# Altium footprint library CMT-8504-100-SMT-TR.PcbLib: 1 footprints
Each footprint in its own frame and in the unit in brackets; x right, y up, seen from the top. Pads: shape width x height; smd on the part's side, far side on the other; paste and mask are expansions set on the pad; w line width, h text height; cw(c..) or ccw(c..) is an arc to the next point about the centre after c.
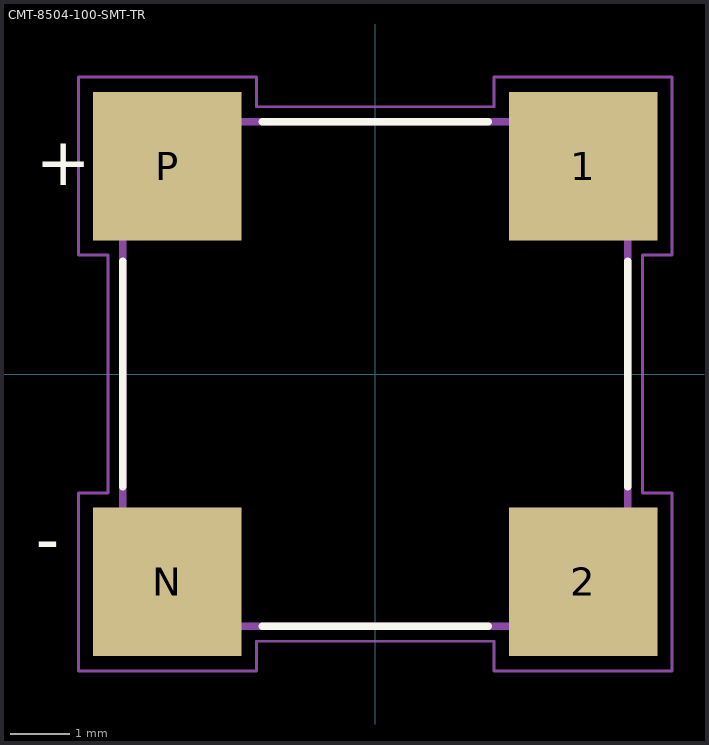
[diagram p0: the footprint, top view; thin cyan lines are the x and y axes]

## CMT-8504-100-SMT-TR [mm]
height 4
pads (4):
  rect 2.5x2.5 smd: 1(3.5,3.5) 2(3.5,-3.5) N(-3.5,-3.5) P(-3.5,3.5)
Top Overlay:
  lines w0.127: -4.25,-1.9 -4.25,1.9 ; -1.9,-4.25 1.9,-4.25 ; -1.9,4.25 1.9,4.25 ; 4.25,-1.9 4.25,1.9
  text "-" at -5.715,-3.175 h0.81
  text "+" at -5.715,3.175 h0.81
Mechanical 13:
  lines w0.127: -4.25,-4.25 -4.25,4.25 4.25,4.25 4.25,-4.25 -4.25,-4.25
  text "+" at -5.715,3.175 h0.81
  text "-" at -5.715,-3.175 h0.81
Mechanical 15:
  lines w0.05: -5,-5 -2,-5 -2,-4.5 2,-4.5 2,-5 5,-5 5,-2 4.5,-2 4.5,2 5,2 5,5 2,5 2,4.5 -2,4.5 -2,5 -5,5 -5,2 -4.5,2 -4.5,-2 -5,-2 -5,-5
3D body "CUI_DEVICES_CMT-8504-100-SMT-TR.step": height 4, standoff 0, extent -3.996,-4.25 4.532,4.278